# Altium footprint library PCB - CONNECTORS - MOLEX - Picoblade-RightAngle.PcbLib: 8 footprints
Each footprint in its own frame and in the unit in brackets; x right, y up, seen from the top. Pads: shape width x height; smd on the part's side, far side on the other; paste and mask are expansions set on the pad; w line width, h text height; cw(c..) or ccw(c..) is an arc to the next point about the centre after c.
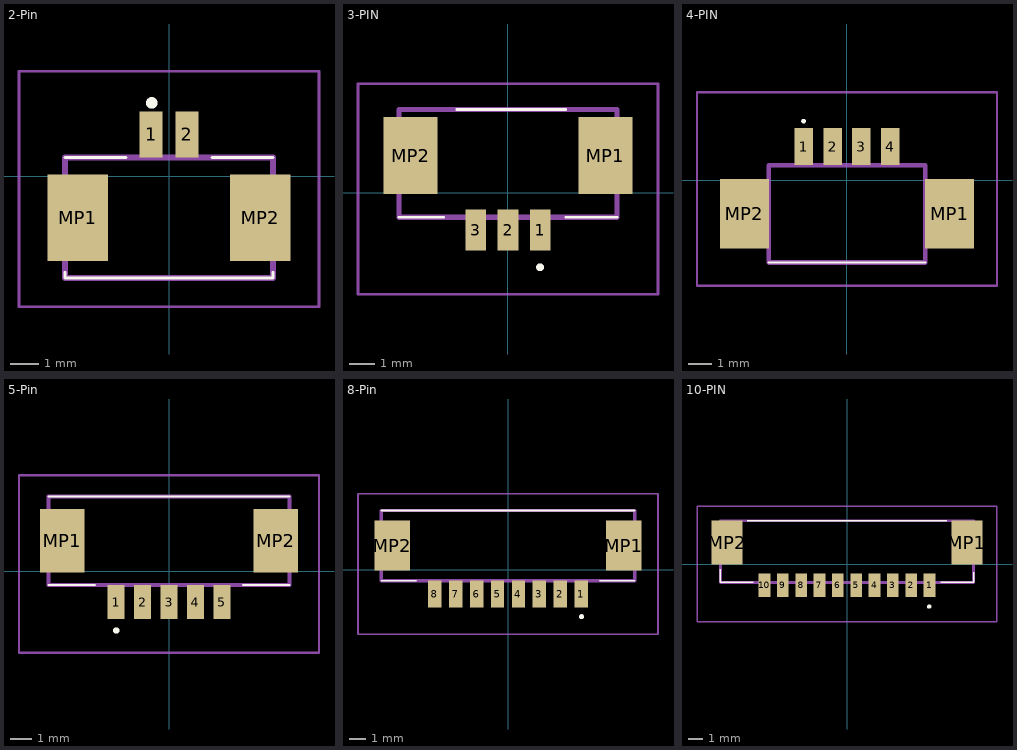
[diagram p0: the footprints below, top view; thin cyan lines are the x and y axes]

## 2-Pin [mm]
pads (4):
  rect 0.8x1.6 smd: 1(-0.625,1.45) 2(0.625,1.45)
  rect 2.1x3 smd: MP1(-3.175,-1.45) MP2(3.175,-1.45)
Top Overlay:
  lines w0.1: -3.625,-3.35 -3.625,-3.55 3.625,-3.55 3.625,-3.35 ; -3.625,0.65 -1.5,0.65 ; 1.5,0.65 3.625,0.65
  lines w0.2: -0.7,2.55 ccw(c-0.6,2.55) -0.5,2.55 ccw(c-0.6,2.55) -0.7,2.55
Mechanical 13:
  lines w0.2: -3.625,-3.55 3.625,-3.55 3.625,0.65 -3.625,0.65 -3.625,-3.55
Mechanical 15:
  lines w0.1: -5.225,-4.55 5.225,-4.55 5.225,3.65 -5.225,3.65 -5.225,-4.55
3D body "53261-7002.stp": height 3.5, standoff 0, extent -4.015,-3.55 4.015,2.17

## 3-PIN [mm]
pads (5):
  rect 0.8x1.6 smd: 1(1.25,-1.45) 2(0,-1.45) 3(-1.25,-1.45)
  rect 2.1x3 smd: MP1(3.8,1.45) MP2(-3.8,1.45)
Top Overlay:
  lines w0.1: -4.25,-0.95 -2.5,-0.95 ; -2,3.25 2.25,3.25 ; 2.25,-0.95 4.25,-0.95
  lines w0.2: 1.25,-2.95 ccw(c1.25,-2.9) 1.25,-2.85 ; 1.25,-2.95 cw(c1.25,-2.9) 1.25,-2.85 ; 1.25,-2.95 ccw(c1.25,-2.9) 1.25,-2.85
Mechanical 13:
  lines w0.2: -4.25,-0.95 4.25,-0.95 4.25,3.25 -4.25,3.25 -4.25,-0.95
Mechanical 15:
  lines w0.1: -5.85,-3.95 5.85,-3.95 5.85,4.25 -5.85,4.25 -5.85,-3.95
3D body "53261-7003.stp": height 3.5, standoff 0, extent -4.64,-2.17 4.64,3.25

## 4-PIN [mm]
pads (6):
  rect 0.8x1.6 smd: 1(-1.875,1.45) 2(-0.625,1.45) 3(0.625,1.45) 4(1.875,1.45)
  rect 2.1x3 smd: MP1(4.425,-1.45) MP2(-4.425,-1.45)
Top Overlay:
  lines w0.1: -3.375,-3.55 3.375,-3.55 ; -1.925,2.55 ccw(c-1.875,2.55) -1.825,2.55 ccw(c-1.875,2.55) -1.925,2.55
Mechanical 13:
  lines w0.2: -3.375,-3.55 3.375,-3.55 3.375,0.65 -3.375,0.65 -3.375,-3.55
Mechanical 15:
  lines w0.1: -6.475,-4.55 6.475,-4.55 6.475,3.792 -6.475,3.792 -6.475,-4.55
3D body "53261-7004.stp": height 3.7, standoff 0, extent -5.265,-3.55 5.265,2.17

## 5-Pin [mm]
pads (7):
  rect 0.8x1.6 smd: 1(-2.5,-1.45) 2(-1.25,-1.45) 3(0,-1.45) 4(1.25,-1.45) 5(2.5,-1.45)
  rect 2.1x3 smd: MP1(-5.05,1.45) MP2(5.05,1.45)
Top Overlay:
  lines w0.1: -5.7,-0.65 -3.5,-0.65 -5.7,-0.65 ; -5.7,3.55 5.7,3.55 -5.7,3.55 ; 3.5,-0.65 5.7,-0.65 3.5,-0.65
  lines w0.2: -2.5,-2.85 cw(c-2.5,-2.8) -2.5,-2.75 ; -2.5,-2.85 ccw(c-2.5,-2.8) -2.5,-2.75 ; -2.5,-2.85 cw(c-2.5,-2.8) -2.5,-2.75
Mechanical 13:
  lines w0.2: -5.7,-0.65 5.7,-0.65 5.7,3.55 -5.7,3.55 -5.7,-0.65
Mechanical 15:
  lines w0.1: -7.1,-3.85 7.1,-3.85 7.1,4.55 -7.1,4.55 -7.1,-3.85
3D body "0532617005.stp": height 3.5, standoff 0, extent -5.89,-2.17 5.89,3.55

## 6-PIN [mm]

## 8-Pin [mm]
pads (10):
  rect 0.8x1.6 smd: 1(4.375,-1.45) 2(3.125,-1.45) 3(1.875,-1.45) 4(0.625,-1.45) 5(-0.625,-1.45) 6(-1.875,-1.45) 7(-3.125,-1.45) 8(-4.375,-1.45)
  rect 2.1x3 smd: MP1(6.925,1.45) MP2(-6.925,1.45)
Top Overlay:
  lines w0.1: -7.575,-0.65 -5.5,-0.65 -7.575,-0.65 ; -7.575,3.55 7.575,3.55 -7.575,3.55 ; 5.5,-0.65 7.575,-0.65 5.5,-0.65
  lines w0.2: 4.4,-2.85 cw(c4.4,-2.8) 4.4,-2.75 ; 4.4,-2.85 ccw(c4.4,-2.8) 4.4,-2.75 ; 4.4,-2.85 cw(c4.4,-2.8) 4.4,-2.75
Mechanical 13:
  lines w0.2: -7.575,-0.65 7.575,-0.65 7.575,3.55 -7.575,3.55 -7.575,-0.65
Mechanical 15:
  lines w0.1: -8.975,-3.85 8.975,-3.85 8.975,4.55 -8.975,4.55 -8.975,-3.85
3D body "53261-7008.stp": height 3.5, standoff 0, extent -7.765,-2.17 7.765,3.55

## 9-PIN [mm]

## 10-PIN [mm]
pads (12):
  rect 0.8x1.6 smd: 1(5.625,-1.45) 2(4.375,-1.45) 3(3.125,-1.45) 4(1.875,-1.45) 5(0.625,-1.45) 6(-0.625,-1.45) 7(-1.875,-1.45) 8(-3.125,-1.45) 9(-4.375,-1.45) 10(-5.625,-1.45)
  rect 2.1x3 smd: MP1(8.175,1.45) MP2(-8.175,1.45)
Top Overlay:
  lines w0.1: -8.625,-1.25 -6.4,-1.25 -8.625,-1.25 ; -8.625,-1.25 -8.625,-0.35 -8.625,-1.25 ; 8.625,-1.25 8.625,-0.55 8.625,-1.25 ; 8.625,-1.25 6.4,-1.25 8.625,-1.25 ; -6.8,2.95 6.8,2.95 -6.8,2.95
  lines w0.2: 5.6,-2.95 cw(c5.6,-2.9) 5.6,-2.85 ; 5.6,-2.95 ccw(c5.6,-2.9) 5.6,-2.85 ; 5.6,-2.95 cw(c5.6,-2.9) 5.6,-2.85
Mechanical 13:
  lines w0.2: -8.625,-1.25 -8.625,2.95 8.625,2.95 8.625,-1.25 -8.625,-1.25
Mechanical 15:
  lines w0.1: -10.225,-3.95 -10.225,3.95 10.225,3.95 10.225,-3.95 -10.225,-3.95
3D body "53261-7010.stp": height 3.5, standoff 0, extent -9.015,-2.17 9.015,2.95